# Altium footprint library PCB - RF FILTER - MINICIRCUITS FV1206.PCBLIB: 1 footprints
Each footprint in its own frame and in the unit in brackets; x right, y up, seen from the top. Pads: shape width x height; smd on the part's side, far side on the other; paste and mask are expansions set on the pad; w line width, h text height; cw(c..) or ccw(c..) is an arc to the next point about the centre after c.
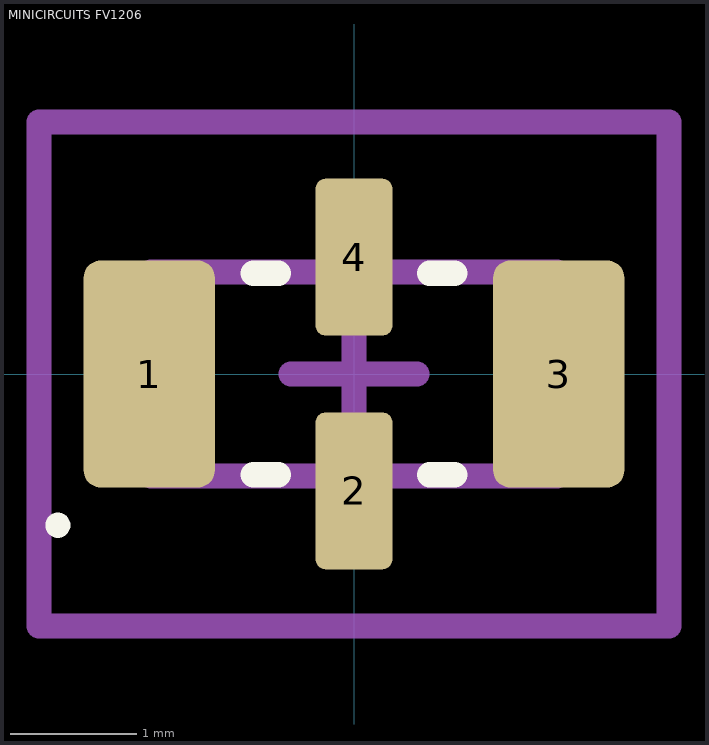
[diagram p0: the footprint, top view; thin cyan lines are the x and y axes]

## MINICIRCUITS FV1206 [mm] "Ceramic Filter 1206 case 4PC pin"
height 0.94
pads (4):
  rrect25% 1.04x1.8 smd: 1(-1.625,0) 3(1.625,0)
  rrect25% 0.61x1.245 smd: 2(0,-0.927) 4(0,0.927)
Top Overlay:
  circle w0.1: c-2.35,-1.2 r0.05
  lines w0.2: -0.8,-0.8 -0.6,-0.8 ; -0.8,0.8 -0.6,0.8 ; 0.6,-0.8 0.8,-0.8 ; 0.6,0.8 0.8,0.8
Mechanical 1:
  lines w0.2: -1.61,-0.81 1.61,-0.81 1.61,0.81 -1.61,0.81 -1.61,-0.81
Mechanical 15:
  lines w0.2: -0.5,0 0.5,0 ; 0,-0.5 0,0.5 ; -2.5,-2 -2.5,2 0,2 2.5,2 2.5,-2 -2.5,-2
3D body: height 0.94, standoff 0, extent -1.61,-0.81 1.61,0.81